# Altium footprint library OLEDp96MOD_BOARD_MOUNT.PcbLib: 1 footprints
Each footprint in its own frame and in the unit in brackets; x right, y up, seen from the top. Pads: shape width x height; smd on the part's side, far side on the other; paste and mask are expansions set on the pad; w line width, h text height; cw(c..) or ccw(c..) is an arc to the next point about the centre after c.
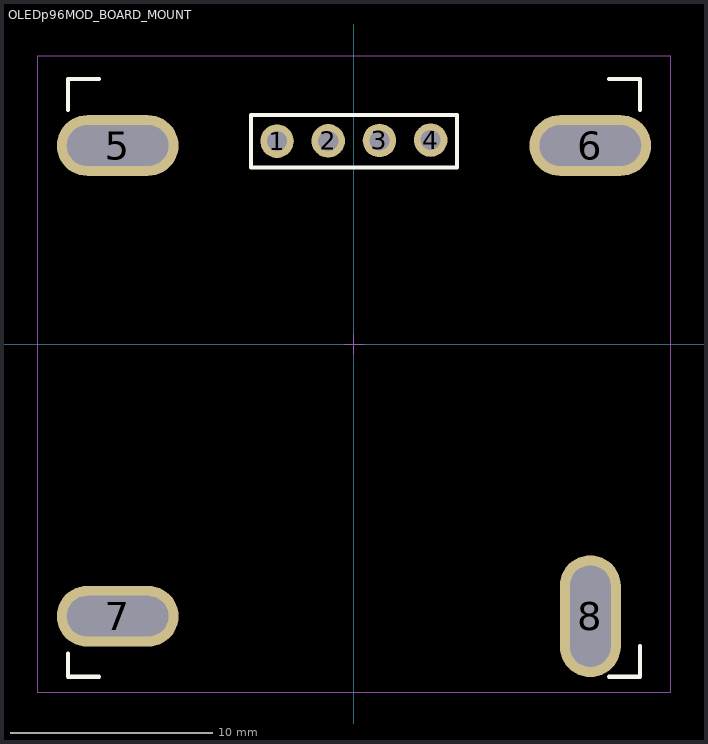
[diagram p0: the footprint, top view; thin cyan lines are the x and y axes]

## OLEDp96MOD_BOARD_MOUNT [mm]
pads (8):
  round 1.651 hole 0.991: 1(-3.795,10.015) 2(-1.27,10.033) 3(1.255,10.051) 4(3.779,10.068)
  oval 6x3 hole 2 slot 5 at 0 deg: 5(-11.65,9.8) 6(11.65,9.8) 7(-11.65,-13.4)
  oval 3x6 hole 2 slot 5 at 90 deg: 8(11.65,-13.4)
Top Overlay:
  lines w0.2: -14.097,-15.24 -14.097,-16.383 -12.573,-16.383 ; -14.097,11.557 -14.097,13.081 -12.573,13.081 ; 12.573,-16.383 14.097,-16.383 14.097,-14.859 ; 12.573,13.081 14.097,13.081 14.097,11.557 ; -5.08,8.728 5.067,8.728 5.067,11.303 -5.08,11.303 -5.08,8.728
Mechanical 15:
  lines w0.05: -0.508,0 0.508,0 ; 0,-0.508 0,0.508 ; -15.621,-17.145 15.621,-17.145 15.621,14.224 -15.621,14.224 -15.621,-17.145
3D body "OLED-128x64-0.96.step": height 9.06, standoff -1.79, extent -13.34,-15.479 13.36,12.381